# EAGLE library part USB (library Athena-r1p0)
Library: MF_Connectors Description: 5 Pin USB Connectors. SLD is the shield connection. Usually tied to ground through a small ferrite bead.
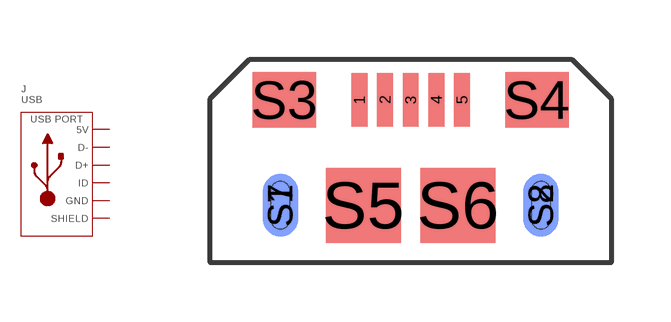
[diagram p7: symbol with the pads of MICROUSB-RIGHT; footprint MICROUSB-RIGHT]

Designator prefix J

## USB_MICRO_RIGHT (HOUSEPART: YES; HUOSEPART: NO; POPULATE: 1; URL: http://www.4uconnector.com/online/object/4udrawing/20236.pdf; VALUE: MF-CON-MICROUSB-RIGHT)  [MICROUSB-RIGHT]
1  5V  pwr
2  D-
3  D+
4  ID
5  GND  pwr
S1  SLD  pwr
S2  SLD  pwr
S3  SLD  pwr
S4  SLD  pwr
S5  SLD  pwr
S6  SLD  pwr

## Footprint MICROUSB-RIGHT (pad centres in mm)
Description: Package for Micro USB Type B connector. Based on FCI 10118193-0001LF.
smd 0.4 x 1.35: 1 -1.3,1.27; 2 -0.65,1.27; 3 0,1.27; 4 0.65,1.27; 5 1.3,1.27
smd 0.9 x 1.6: S1 -3.3,-1.4; S2 3.3,-1.4
smd 1.6 x 1.4: S3 -3.2,1.27; S4 3.2,1.27
smd 1.9 x 1.9: S5 -1.2,-1.405; S6 1.2,-1.405
smd 0.9 x 1.6 bottom: S7 -3.3,-1.4; S8 3.3,-1.4